# EAGLE library part LEISTUNGSSCHALTER_MIT_HILFSKONTAKT_13-14_21-22 (library e-schalter)
Leistungsschalter mit Hilfskontakten 13, 14, 21, 22
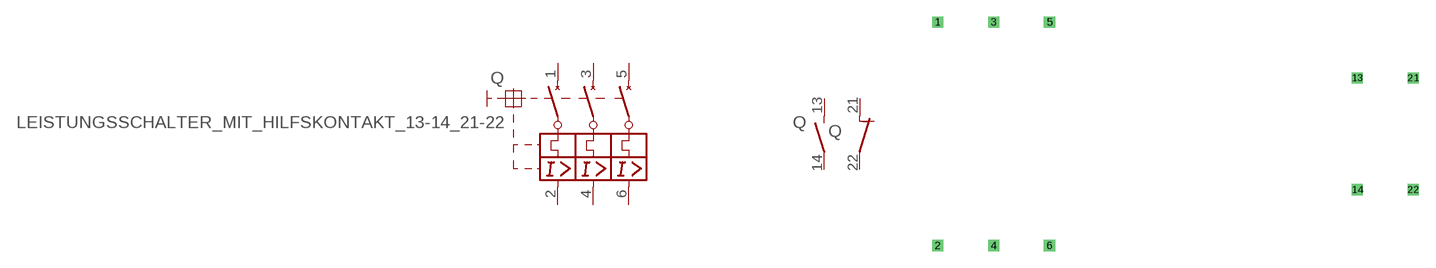
[diagram p11: symbol with the pads of LEISTUNGSSCHALTER_MIT_HILFSKONTAKT_13_14_21_22; footprint LEISTUNGSSCHALTER_MIT_HILFSKONTAKT_13_14_21_22]

Designator prefix Q; gates G$1=LEISTUNGSSCHALTER_MIT_HILFSKONTAKT_13_14_21_22 G$2=SCHLIESSER G$3=OEFFNER

## LEISTUNGSSCHALTER_MIT_HILFSKONTAKT_13-14_21-22  [LEISTUNGSSCHALTER_MIT_HILFSKONTAKT_13_14_21_22]
1  G$1:1  pas
2  G$1:2  pas
3  G$1:3  pas
4  G$1:4  pas
5  G$1:5  pas
6  G$1:6  pas
13  G$2:13  pas
14  G$2:14  pas
21  G$3:21  pas
22  G$3:22  pas

## Footprint LEISTUNGSSCHALTER_MIT_HILFSKONTAKT_13_14_21_22 (pad centres in mm)
Dummy
drill 0.5 pad 1 square: 1 -5.08,7.62; 2 -5.08,-12.7; 3 0,7.62; 4 0,-12.7; 5 5.08,7.62; 6 5.08,-12.7; 13 33.02,2.54; 14 33.02,-7.62; 21 38.1,2.54; 22 38.1,-7.62